# Altium footprint library CapacitorsFootprins.PcbLib: 8 footprints
Each footprint in its own frame and in the unit in brackets; x right, y up, seen from the top. Pads: shape width x height; smd on the part's side, far side on the other; paste and mask are expansions set on the pad; w line width, h text height; cw(c..) or ccw(c..) is an arc to the next point about the centre after c.
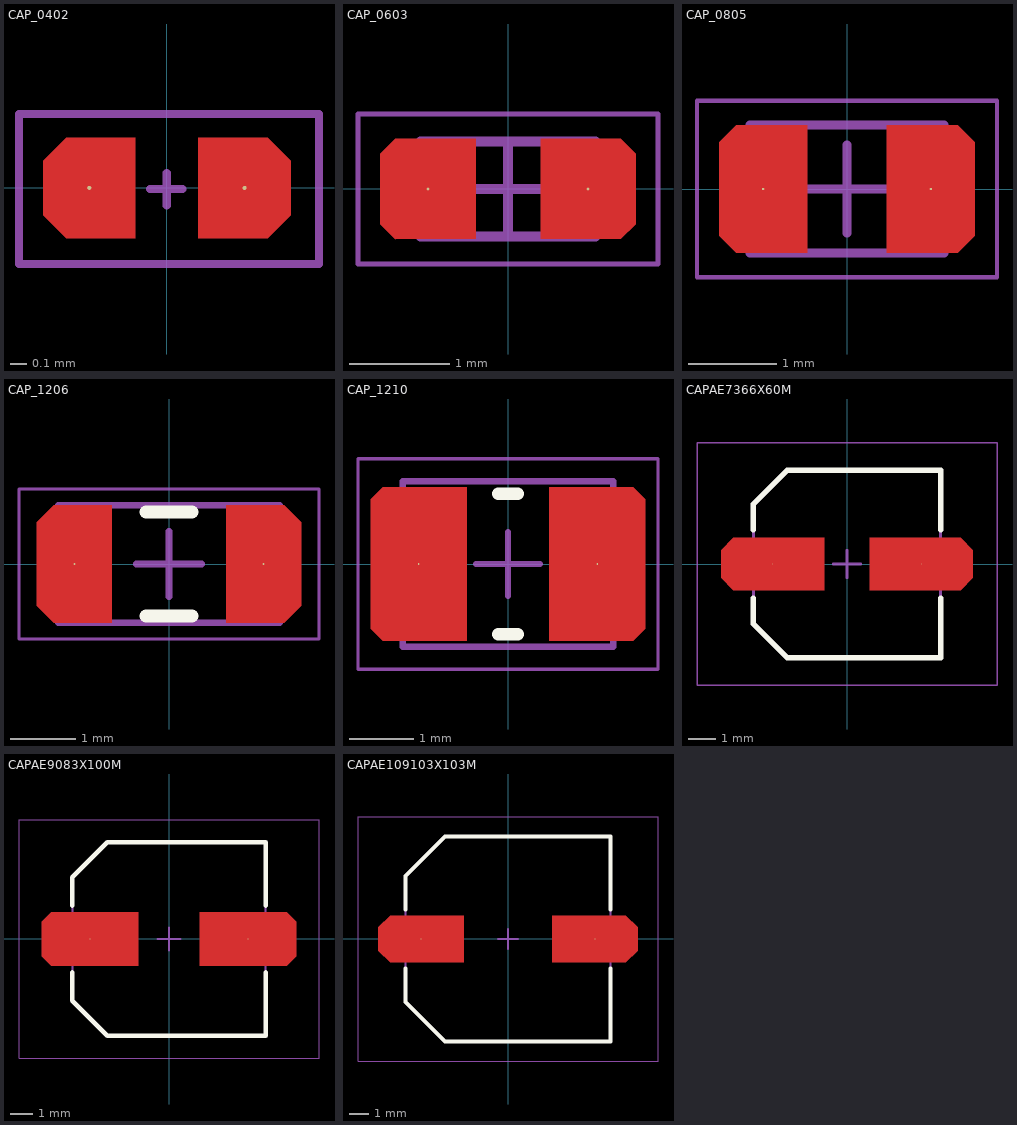
[diagram p0: the footprints below, top view; thin cyan lines are the x and y axes]

## CAP_0402 [mil] "Chip Capacitor, 2-Leads, Body 0.40x0.20mm, IPC Medium Density"
height 7.87
pads (2):
  round 1 smd mask+1.97: 1(-18.9,0) 2(18.9,0)
Top Layer:
  region: -24.51,-12.2 -30.12,-6.59 -30.12,6.59 -24.51,12.2 -7.68,12.2 -7.68,-12.2
  region: 7.68,-12.2 24.51,-12.2 30.12,-6.59 30.12,6.59 24.51,12.2 7.68,12.2
Mechanical 15:
  lines w1.97: -4.12,-0.22 3.75,-0.22 ; -0.04,-4.25 -0.04,3.63 ; -36,-18.54 -36,18 37,18 37,-18.54 -36,-18.54
3D body "CCS_CCSTDNOS_0402_L1.05W0.55T0.55B0.3.step": height 21.65, standoff 0, extent -21,-11 20.34,10.65

## CAP_0603 [mil] "Chip Capacitor, 2-Leads, Body 1.60x0.80mm, IPC Medium Density"
height 31.5
pads (2):
  round 1 smd: 1(-31.5,0) 2(31.5,0)
Top Layer:
  region: -50.2,-13.8 -50.2,13.8 -44.31,19.69 -12.8,19.69 -12.8,-19.69 -44.31,-19.69
  region: 12.8,-19.69 12.8,19.69 44.31,19.69 50.2,13.8 50.2,-13.8 44.31,-19.69
Mechanical 13:
  lines w3.94: -34.45,-18.7 -34.45,18.7 34.45,18.7 34.45,-18.7 -34.45,-18.7
Mechanical 15:
  lines w1.97: -59.06,-29.53 -59.06,29.53 59.06,29.53 59.06,-29.53 -59.06,-29.53
  lines w3.94: -18.7,0 18.7,0 ; 0,-18.7 0,18.7
3D body "CAP_0603.step": height 31.5, standoff 0, extent -34.45,-18.7 34.45,18.7

## CAP_0805 [mil] "Chip Capacitor, 2-Leads, Body 2.00x1.25mm, IPC Medium Density"
height 23.62
pads (2):
  round 1 smd: 1(-37.4,0) 2(37.4,0)
Top Layer:
  region: -57.09,-20.91 -57.09,20.91 -49.46,28.54 -17.72,28.54 -17.72,-28.54 -49.46,-28.54
  region: 17.72,-28.54 17.72,28.54 49.46,28.54 57.09,20.91 57.09,-20.91 49.46,-28.54
Mechanical 13:
  lines w3.94: -43.31,-28.54 -43.31,28.54 43.31,28.54 43.31,-28.54 -43.31,-28.54
Mechanical 15:
  lines w1.97: -66.93,-39.37 -66.93,39.37 66.93,39.37 66.93,-39.37 -66.93,-39.37
  lines w3.94: -19.69,0 19.68,0 ; 0,-19.68 0,19.68
3D body "CAP_0805.step": height 23.62, standoff 0, extent -43.31,-28.54 43.31,28.54

## CAP_1206 [mil] "Chip Capacitor, 2-Leads, Body 3.20x1.60mm, IPC Medium Density"
height 35.43
pads (2):
  round 1 smd: 1(-57.09,0) 2(57.09,0)
Top Layer:
  region: -79.72,-25.28 -79.72,25.28 -69.57,35.43 -34.45,35.43 -34.45,-35.43 -69.57,-35.43
  region: 34.45,-35.43 34.45,35.43 69.57,35.43 79.72,25.28 79.72,-25.28 69.57,-35.43
Top Overlay:
  lines w7.87: -13.78,-31.5 13.78,-31.5 ; -13.78,31.5 13.78,31.5
Mechanical 13:
  lines w3.94: -66.93,-35.43 -66.93,35.43 66.93,35.43 66.93,-35.43 -66.93,-35.43
Mechanical 15:
  lines w1.97: -90.55,-45.28 -90.55,45.28 90.55,45.28 90.55,-45.28 -90.55,-45.28
  lines w3.94: -19.68,0 19.68,0 ; 0,-19.68 0,19.69
3D body "CAP_1206.step": height 35.43, standoff 0, extent -66.93,-35.43 66.93,35.43

## CAP_1210 [mil] "Chip Capacitor, 2-Leads, Body 3.20x2.50mm, IPC Medium Density"
height 110.24
pads (2):
  round 1 smd: 1(-55.12,0) 2(55.12,0)
Top Layer:
  region: -84.65,-39.86 -77.26,-47.24 -25.59,-47.24 -25.59,47.24 -77.26,47.24 -84.65,39.86
  region: 25.59,-47.24 77.26,-47.24 84.65,-39.86 84.65,39.86 77.26,47.24 25.59,47.24
Top Overlay:
  lines w7.87: -5.91,-43.31 5.91,-43.31 ; -5.91,43.31 5.91,43.31
Mechanical 13:
  lines w3.94: -65,-51 -65,51 65,51 65,-51 -65,-51
Mechanical 15:
  lines w1.97: -92.52,-64.96 -92.52,64.96 92.52,64.96 92.52,-64.96 -92.52,-64.96
  lines w3.94: -19.68,0 19.68,0 ; 0,-19.68 0,19.68
3D body "MSAST32MAB5476MPNDT1.step": height 110.24, standoff 0, extent -62.99,-49.21 62.99,49.21

## CAPAE7366X60M [mil] "Aluminum Electrolytic Capacitor, Body 6.60x6.60x6.00mm, IPC Low Density"
height 236.22
pads (2):
  round 1 smd: 1(-106.3,0) 2(106.3,0)
Top Layer:
  region: 32.48,-37.4 32.48,37.4 162.6,37.4 180.12,19.88 180.12,-19.88 162.6,-37.4
  region: -180.12,-19.88 -180.12,19.88 -162.6,37.4 -32.48,37.4 -32.48,-37.4 -162.6,-37.4
Top Overlay:
  lines w7.87: -133.86,-49.21 -133.86,-85.63 -85.63,-133.86 133.86,-133.86 133.86,-49.21 ; -133.86,49.21 -133.86,85.63 -85.63,133.86 133.86,133.86 133.86,49.21
Mechanical 13:
  lines w3.94: -133.86,-85.63 -133.86,85.63 -85.63,133.86 133.86,133.86 133.86,-133.86 -85.63,-133.86 -133.86,-85.63
Mechanical 15:
  lines w1.97: -214.57,-173.23 214.57,-173.23 214.57,173.23 -214.57,173.23 -214.57,-173.23
  lines w3.94: -19.68,0 19.69,0 ; 0,-19.68 0,19.69
3D body "CAPAE7366X60M.step": height 236.26, standoff -11.85, extent -143.7,-133.86 143.7,133.86

## CAPAE9083X100M [mil] "Aluminum Electrolytic Capacitor, Body 8.30x8.30x10.00mm, IPC Low Density"
height 393.7
pads (2):
  round 1 smd: 1(-136.81,0) 2(136.81,0)
Top Layer:
  region: 53.15,-46.26 204.28,-46.26 220.47,-30.07 220.47,30.07 204.28,46.26 53.15,46.26
  region: -220.47,-30.07 -204.28,-46.26 -53.15,-46.26 -53.15,46.26 -204.28,46.26 -220.47,30.07
Top Overlay:
  lines w7.87: -167.32,-58.07 -167.32,-106.79 -106.79,-167.32 167.32,-167.32 167.32,-58.07 ; -167.32,58.07 -167.32,106.79 -106.79,167.32 167.32,167.32 167.32,58.07
Mechanical 13:
  lines w3.94: -167.32,-106.79 -167.32,106.79 -106.79,167.32 167.32,167.32 167.32,-167.32 -106.79,-167.32 -167.32,-106.79
Mechanical 15:
  lines w1.97: -259.84,-206.69 259.84,-206.69 259.84,206.69 -259.84,206.69 -259.84,-206.69
  lines w3.94: -19.68,0 19.69,0 ; 0,-19.69 0,19.68
3D body "CAPAE9083X100M.step": height 393.74, standoff 0, extent -177.17,-167.32 177.17,167.32

## CAPAE109103X103M [mil] "Aluminum Electrolytic Capacitor, Body 10.30x10.30x10.30mm, IPC Low Density"
height 405.51
pads (2):
  round 1 smd: 1(-172.24,0) 2(172.24,0)
Top Layer:
  region: 87.6,-46.26 233.76,-46.26 256.89,-23.13 256.89,23.13 233.76,46.26 87.6,46.26
  region: -256.89,-23.13 -233.76,-46.26 -87.6,-46.26 -87.6,46.26 -233.76,46.26 -256.89,23.13
Top Overlay:
  lines w7.87: -202.76,-58.07 -202.76,-124.51 -124.51,-202.76 202.76,-202.76 202.76,-58.07 ; -202.76,58.07 -202.76,124.51 -124.51,202.76 202.76,202.76 202.76,58.07
Mechanical 13:
  lines w3.94: -202.76,-124.51 -202.76,124.51 -124.51,202.76 202.76,202.76 202.76,-202.76 -124.51,-202.76 -202.76,-124.51
Mechanical 15:
  lines w1.97: -297.24,-242.13 297.24,-242.13 297.24,242.13 -297.24,242.13 -297.24,-242.13
  lines w3.94: -19.68,0 19.68,0 ; 0,-19.69 0,19.68
3D body "CAPAE109103X103M.step": height 405.55, standoff 0, extent -214.57,-202.76 214.57,202.76